# EAGLE library part MAX320 (library 1A-meinLib)
Dual Analog Switch, Maxim, dual Supply, SPST
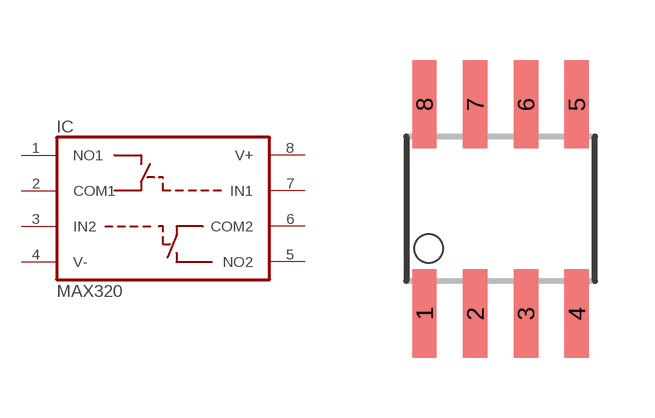
[diagram p67: symbol with the pads of SO08; footprint SO08]

Designator prefix IC

## MAX320  [SO08]
1  NO1  in
2  COM1  pas
3  IN2  pas
4  V-  nc
5  NO2  pwr
6  COM2  pwr
7  IN1  pwr
8  V+  pwr

## Footprint SO08 (pad centres in mm)
Small Outline Package
smd 0.61 x 2.21: 1 -1.905,-2.616; 2 -0.635,-2.616; 3 0.635,-2.616; 4 1.905,-2.616; 5 1.905,2.616; 6 0.635,2.616; 7 -0.635,2.616; 8 -1.905,2.616